# Altium footprint library LEDC2012X70N.PcbLib: 1 footprints
Each footprint in its own frame and in the unit in brackets; x right, y up, seen from the top. Pads: shape width x height; smd on the part's side, far side on the other; paste and mask are expansions set on the pad; w line width, h text height; cw(c..) or ccw(c..) is an arc to the next point about the centre after c.
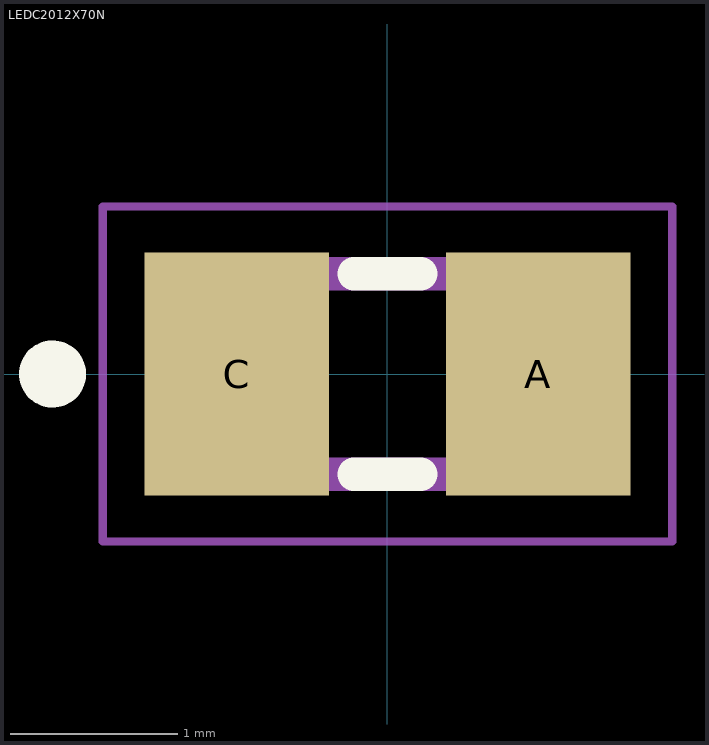
[diagram p0: the footprint, top view; thin cyan lines are the x and y axes]

## LEDC2012X70N [mm]
pads (2):
  rect 1.1x1.45 smd: A(0.9,0) C(-0.9,0)
Top Overlay:
  circle w0.2: c-2,0 r0.1
  lines w0.2: -0.2,-0.6 0.2,-0.6 ; -0.2,0.6 0.2,0.6
Mechanical 13:
  region: -0.5,-0.6 -1,-0.6 -1,0.6 -0.5,0.6
  region: 1,-0.6 0.5,-0.6 0.5,0.6 1,0.6
  lines w0.2: -1,-0.6 1,-0.6 1,0.6 -1,0.6 -1,-0.6
Mechanical 15:
  lines w0.05: -1.7,-1 1.7,-1 1.7,1 -1.7,1 -1.7,-1
3D body "step_temp.STEP": height 0.7, standoff 0, extent -1,-0.625 1,0.625